# Altium schematic symbol library CAP_220uF.SchLib: 1 symbol
Pins are listed as number, name and electrical type; pins without a type are passive.

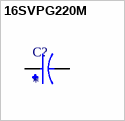
[diagram p0: symbol 16SVPG220M]

## 16SVPG220M
designator C?
MP: 16SVPG220M; Price: None; Package: None; Value: *; Availability: Unavailable
footprint CAP_16SVPG220M
pins: 1, 2